# EAGLE library part ADS114S08BIRHBT (library ADS114S08BIRHBT)
16-Bit, 4kSPS, 12-Ch Delta-Sigma ADC With PGA and Voltage Reference for Low-Cost Applications 32-VQFN -40 to 125
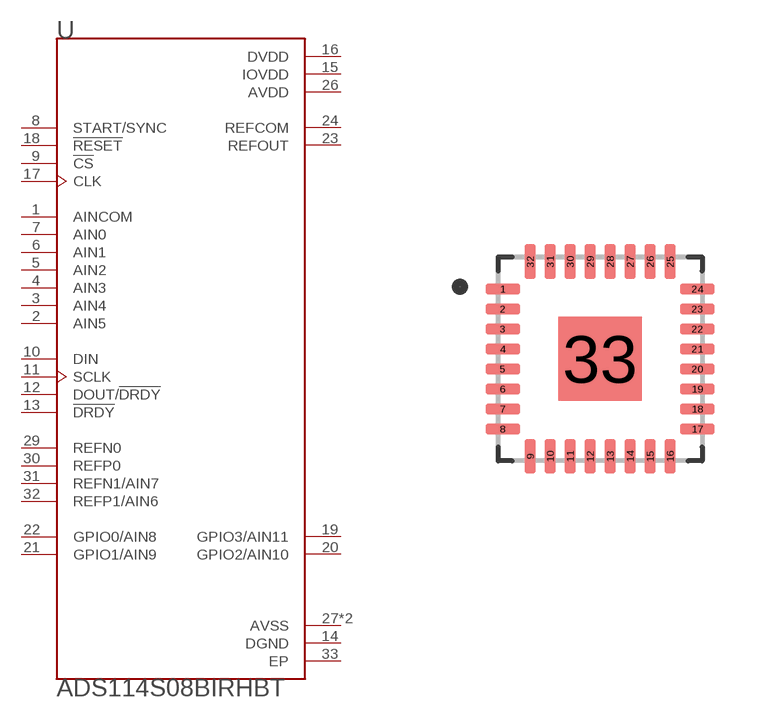
[diagram p0: symbol with the pads of QFN50P500X500X100-33N; footprint QFN50P500X500X100-33N]

Designator prefix U

## ADS114S08BIRHBT (Availability: Unavailable; Description: 16-Bit, 4kSPS, 12-Ch Delta-Sigma ADC With PGA and Voltage Reference for Low-Cost Applications 32-VQFN -40 to 125; MF: Texas Instruments; MP: ADS114S08BIRHBT; Package: VQFN-32 Texas Instruments; Price: None)  [QFN50P500X500X100-33N]
1  AINCOM  in
2  AIN5  in
3  AIN4  in
4  AIN3  in
5  AIN2  in
6  AIN1  in
7  AIN0  in
8  START/SYNC  in
9  !CS  in
10  DIN  in
11  SCLK  in
12  DOUT/!DRDY  out
13  !DRDY  out
14  DGND  pwr
15  IOVDD  pwr
16  DVDD  pwr
17  CLK  in
18  !RESET  in
19  GPIO3/AIN11
20  GPIO2/AIN10
21  GPIO1/AIN9
22  GPIO0/AIN8
23  REFOUT  out
24  REFCOM  out
26  AVDD  pwr
27  AVSS  pwr
28  AVSS  pwr
29  REFN0  in
30  REFP0  in
31  REFN1/AIN7  in
32  REFP1/AIN6  in
33  EP  pwr

## Footprint QFN50P500X500X100-33N (pad centres in mm)
smd 0.86 x 0.27: 1 -2.435,1.75; 2 -2.435,1.25; 3 -2.435,0.75; 4 -2.435,0.25; 5 -2.435,-0.25; 6 -2.435,-0.75; 7 -2.435,-1.25; 8 -2.435,-1.75; 17 2.435,-1.75; 18 2.435,-1.25; 19 2.435,-0.75; 20 2.435,-0.25; 21 2.435,0.25; 22 2.435,0.75; 23 2.435,1.25; 24 2.435,1.75
smd 0.27 x 0.86: 9 -1.75,-2.435; 10 -1.25,-2.435; 11 -0.75,-2.435; 12 -0.25,-2.435; 13 0.25,-2.435; 14 0.75,-2.435; 15 1.25,-2.435; 16 1.75,-2.435; 25 1.75,2.435; 26 1.25,2.435; 27 0.75,2.435; 28 0.25,2.435; 29 -0.25,2.435; 30 -0.75,2.435; 31 -1.25,2.435; 32 -1.75,2.435
smd 2.1 x 2.1: 33 0,0